# Altium schematic symbol library SCH - RF - MODULE - LAIRD CMP-MOD-453-00012-1.4.Schlib: 1 symbol
Pins are listed as number, name and electrical type; pins without a type are passive.

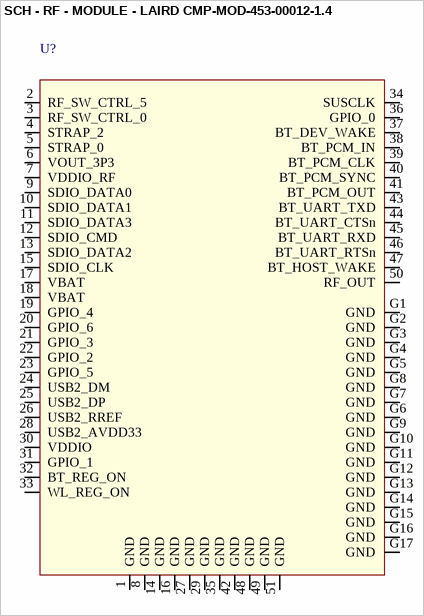
[diagram p0: symbol SCH - RF - MODULE - LAIRD CMP-MOD-453-00012-1.4]

## SCH - RF - MODULE - LAIRD CMP-MOD-453-00012-1.4
designator U?
footprint Laird, Sterling LWB5+ Module, Platform Side
pins: 1 GND, 2 RF_SW_CTRL_5, 3 RF_SW_CTRL_0, 4 STRAP_2, 5 STRAP_0, 6 VOUT_3P3, 7 VDDIO_RF, 8 GND, 9 SDIO_DATA0, 10 SDIO_DATA1, 11 SDIO_DATA3, 12 SDIO_CMD, 13 SDIO_DATA2, 14 GND, 15 SDIO_CLK, 16 GND, 17 VBAT, 18 VBAT, 19 GPIO_4 "GPIO_4=WCI-2 LTE coex. (DATA_IN)", 20 GPIO_6 "GPIO_6=3-Wire coex. (TX_CONF)", 21 GPIO_3 "GPIO_3=3-Wire coex. (STATUS)", 22 GPIO_2 "GPIO_2=3-Wire coex. (RF_ACTIVE)", 23 GPIO_5 "GPIO_5=WCI-2 LTE coex. (DATA_OUT)", 24 USB2_DM, 25 USB2_DP, 26 USB2_RREF, 27 GND, 28 USB2_AVDD33, 29 GND, 30 VDDIO, 31 GPIO_1 "GPIO_1=WL_DEVICE_WAKE", 32 BT_REG_ON, 33 WL_REG_ON, 34 SUSCLK, 35 GND, 36 GPIO_0 "GPIO_0=WL_HOST_WAKE", 37 BT_DEV_WAKE, 38 BT_PCM_IN, 39 BT_PCM_CLK, 40 BT_PCM_SYNC, 41 BT_PCM_OUT, 42 GND, 43 BT_UART_TXD, 44 BT_UART_CTSn, 45 BT_UART_RXD, 46 BT_UART_RTSn, 47 BT_HOST_WAKE, 48 GND, 49 GND, 50 RF_OUT, 51 GND, G1 GND, G2 GND, G3 GND, G4 GND, G5 GND, G6 GND, G7 GND, G8 GND, G9 GND, G10 GND, G11 GND, G12 GND, G13 GND, G14 GND, G15 GND, G16 GND, G17 GND